# EAGLE library part PIC18F14K22 (library Oles komponentbibliotek)
Microchip PIC18F14K22 20-pin flash microcontroller
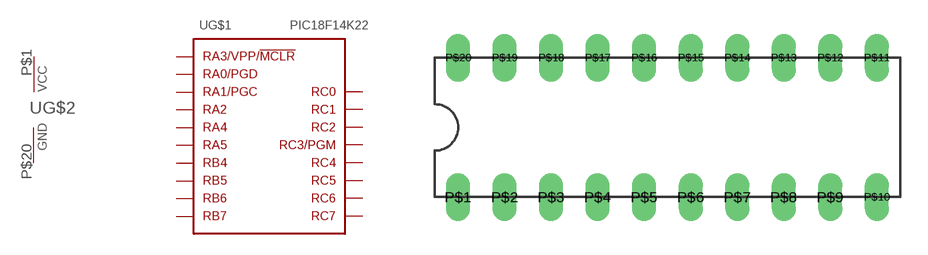
[diagram p28: symbol with the pads of DIL20; footprint DIL20]

Designator prefix -; gates G$1=PIC18F1814K22 G$2=PWRN

## PIC18F14K22  [DIL20]
P$1  G$2:VCC  pwr
P$2  G$1:RA5
P$3  G$1:RA4
P$4  G$1:RA3  in
P$5  G$1:RC5
P$6  G$1:RC4
P$7  G$1:RC3
P$8  G$1:RC6
P$9  G$1:RC7
P$10  G$1:RB7
P$11  G$1:RB6
P$12  G$1:RB5
P$13  G$1:RB4
P$14  G$1:RC2
P$15  G$1:RC1
P$16  G$1:RC0
P$17  G$1:RA2  in
P$18  G$1:RA1
P$19  G$1:RA0
P$20  G$2:GND  pwr

## Footprint DIL20 (pad centres in mm)
drill 0.8 long: P$1 -11.43,-3.81; P$2 -8.89,-3.81; P$3 -6.35,-3.81; P$4 -3.81,-3.81; P$5 -1.27,-3.81; P$6 1.27,-3.81; P$7 3.81,-3.81; P$8 6.35,-3.81; P$9 8.89,-3.81; P$10 11.43,-3.81; P$11 11.43,3.81; P$12 8.89,3.81; P$13 6.35,3.81; P$14 3.81,3.81; P$15 1.27,3.81; P$16 -1.27,3.81; P$17 -3.81,3.81; P$18 -6.35,3.81; P$19 -8.89,3.81; P$20 -11.43,3.81